# EAGLE library part SCHALTER-VERSTÄRKER (library LW_DUB)
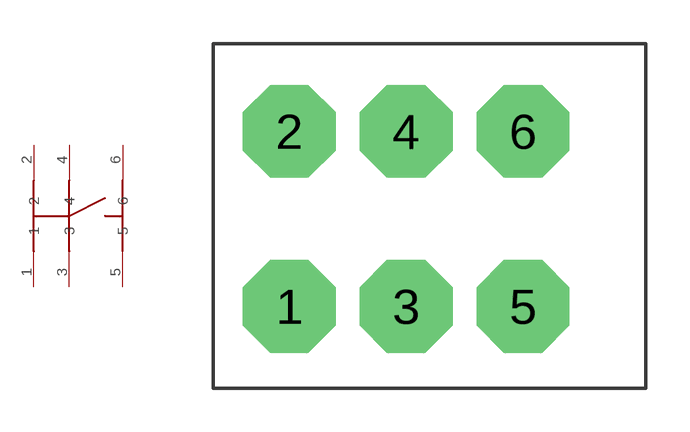
[diagram p7: symbol with the pads of VERSTÄRKER-SCHALTER; footprint VERSTÄRKER-SCHALTER]

Designator prefix -

## SCHALTER-VERSTÄRKER  [VERSTÄRKER-SCHALTER]
1  1
2  2
3  3
4  4
5  5
6  6

## Footprint VERSTÄRKER-SCHALTER (pad centres in mm)
drill 1.4 pad 3.175 octagon: 1 -4,0; 2 -4,6; 3 0,0; 4 0,6; 5 4,0; 6 4,6